# Altium footprint library Transistors.PcbLib: 2 footprints
Each footprint in its own frame and in the unit in brackets; x right, y up, seen from the top. Pads: shape width x height; smd on the part's side, far side on the other; paste and mask are expansions set on the pad; w line width, h text height; cw(c..) or ccw(c..) is an arc to the next point about the centre after c.
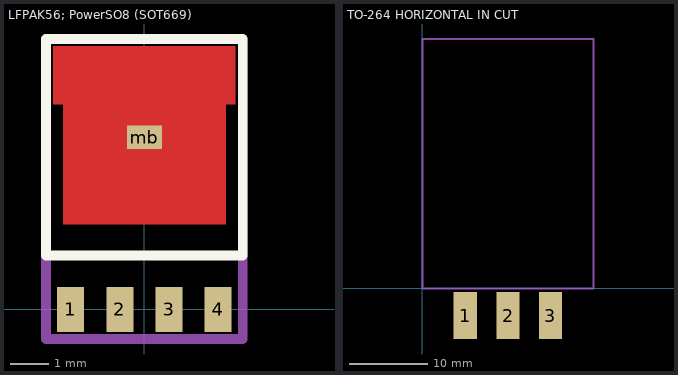
[diagram p0: the footprints below, top view; thin cyan lines are the x and y axes]

## LFPAK56; PowerSO8 (SOT669) [mm] "LFPAK56; PowerSO8 (SOT669)"
pads (5):
  rect 0.7x1.15 smd: 1(-1.905,0) 2(-0.635,0) 3(0.635,0) 4(1.905,0)
  rect 0.9x0.6 smd: mb(0,4.445)
Top Layer:
  pour cut-out: 2.1,2.2 2.1,5.3 2.35,5.3 2.35,6.8 -2.35,6.8 -2.35,5.3 -2.1,5.3 -2.1,2.2
Top Overlay:
  lines w0.254: -2.54,1.397 2.54,1.397 2.54,6.985 -2.54,6.985 -2.54,1.397
Top Solder:
  pour cut-out: 3.81,4.191
  pour cut-out: -0.45,2.413 0.45,2.413 0.45,3.013 -0.45,3.013
  pour cut-out: 0.751,2.413 1.651,2.413 1.651,3.013 0.751,3.013
  pour cut-out: -1.662,2.413 -0.762,2.413 -0.762,3.013 -1.662,3.013
  pour cut-out: -1.662,3.302 -0.762,3.302 -0.762,3.902 -1.662,3.902
  pour cut-out: -0.45,3.302 0.45,3.302 0.45,3.902 -0.45,3.902
  pour cut-out: 0.751,3.302 1.651,3.302 1.651,3.902 0.751,3.902
  pour cut-out: 0.751,4.191 1.651,4.191 1.651,4.791 0.751,4.791
  pour cut-out: -0.45,4.191 0.45,4.191 0.45,4.791 -0.45,4.791
  pour cut-out: -1.662,4.191 -0.762,4.191 -0.762,4.791 -1.662,4.791
  pour cut-out: 1.651,5.842 2.251,5.842 2.251,6.742 1.651,6.742
  pour cut-out: 1.651,5.969
  pour cut-out: 1.651,5.969
  pour cut-out: -2.251,5.842 -1.651,5.842 -1.651,6.742 -2.251,6.742
  pour cut-out: -2.286,5.969
  pour cut-out: -2.286,5.969
  pour cut-out: -0.854,5.842 -0.254,5.842 -0.254,6.742 -0.854,6.742
  pour cut-out: 0.289,5.842 0.889,5.842 0.889,6.742 0.289,6.742
Occupied area:
  lines w0.254: -2.54,-0.762 2.54,-0.762 2.54,6.985 -2.54,6.985 -2.54,-0.762
3D body: height 1.2, standoff 0, extent -2.54,1.46 2.54,6.921

## TO-264 HORIZONTAL IN CUT [mm]
pads (3):
  rect 3x6 all layers, no hole: 1(5.5,-3.5) 2(11,-3.5) 3(16.45,-3.5)
Edge PCB:
  lines w0.254: 0,0 22,0 22,32 0,32 0,0
3D body "TO-264 HORIZONTAL IN CUT.stp": height 0.6, standoff -8.5, extent 1,-5.206 21,30.206